# Altium footprint library CB3-ECB_PCB.PcbLib: 45 footprints (part 1 of 3)
Each footprint in its own frame and in the unit in brackets; x right, y up, seen from the top. Pads: shape width x height; smd on the part's side, far side on the other; paste and mask are expansions set on the pad; w line width, h text height; cw(c..) or ccw(c..) is an arc to the next point about the centre after c.
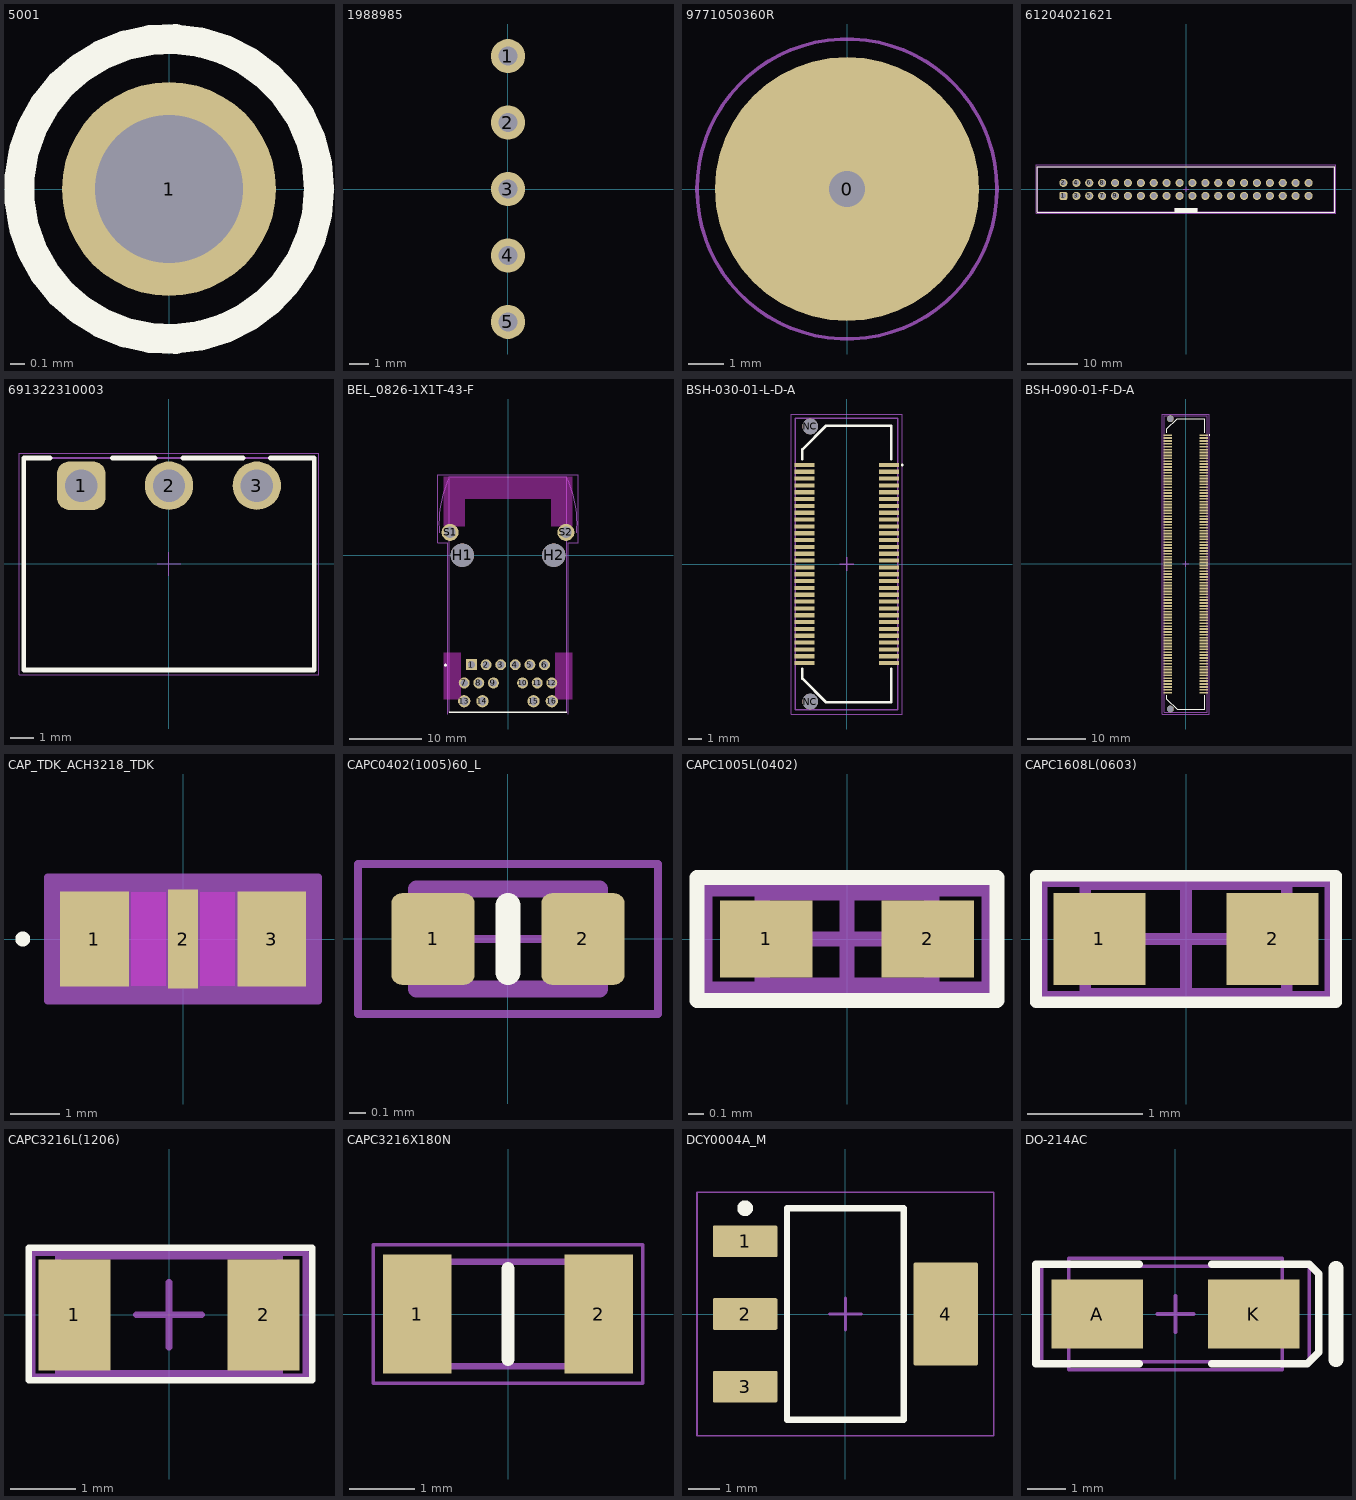
[diagram p0: the footprints below, top view; thin cyan lines are the x and y axes]

## 5001 [mm] "Black PC Test Point, Miniature Phosphor Bronze Silver Plating Through Hole Mounting Type"
pads (1):
  round 1.45 hole 1: 1(0,0)
Top Overlay:
  circle w0.203: c0,0 r1.016
Bottom Overlay:
  circle w0.203: c0,0 r1.016
3D body "5001.step": height 4.59, standoff -3.03, extent -1.27,-1.261 1.27,1.261

## 1988985 [mm] "Conn PC Terminal Block 5 POS 3.5mm Solder Thru-Hole 17.5A"
pads (5):
  round 1.8 hole 1: 1(0,7) 2(0,3.5) 3(0,0) 4(0,-3.5) 5(0,-7)
3D body "pxc_1988985_01_PTA-1-5-5-3-5_3D.stp": height 10.34, standoff -3.08, extent -8.833,-8.81 2.375,9.26

## 9771050360R [mm] "WA-SMSE SMT Steel Spacer, M3 Thread External"
pads (1):
  round 7.4 / inner round 7.4 / far side round 1.5 hole 1: 0(0,0)
Top Paste:
  region: 3.6,-0.3 1.1,-0.3 1.067,-0.448 0.933,-0.719 0.719,-0.933 0.448,-1.067 0.3,-1.1 0.3,-3.6 0.511,-3.583 0.926,-3.499 1.329,-3.368 1.713,-3.19 2.074,-2.968 2.407,-2.706 2.706,-2.407 2.968,-2.074 3.19,-1.713 3.368,-1.329 3.499,-0.926 3.583,-0.511
  region: -0.3,-3.6 -0.3,-1.1 -0.448,-1.067 -0.719,-0.933 -0.933,-0.719 -1.067,-0.448 -1.1,-0.3 -3.6,-0.3 -3.583,-0.511 -3.499,-0.926 -3.368,-1.329 -3.19,-1.713 -2.968,-2.074 -2.706,-2.407 -2.407,-2.706 -2.074,-2.968 -1.713,-3.19 -1.329,-3.368 -0.926,-3.499 -0.511,-3.583
  region: -3.6,0.3 -1.1,0.3 -1.067,0.448 -0.933,0.719 -0.719,0.933 -0.448,1.067 -0.3,1.1 -0.3,3.6 -0.511,3.583 -0.926,3.499 -1.329,3.368 -1.713,3.19 -2.074,2.968 -2.407,2.706 -2.706,2.407 -2.968,2.074 -3.19,1.713 -3.368,1.329 -3.499,0.926 -3.583,0.511
  region: 0.3,3.6 0.3,1.1 0.448,1.067 0.719,0.933 0.933,0.719 1.067,0.448 1.1,0.3 3.6,0.3 3.583,0.511 3.499,0.926 3.368,1.329 3.19,1.713 2.968,2.074 2.706,2.407 2.407,2.706 2.074,2.968 1.713,3.19 1.329,3.368 0.926,3.499 0.511,3.583
Mechanical 15:
  circle w0.1: c0,0 r4.2
3D body "9771050360R.STEP": height 11, standoff -0.8, extent -3,-3 3,3

## 61204021621 [mm] "40 pins, straight, gold plating"
height 9.1
pads (40):
  rrect50% 1.6x1.6 hole 1.1: 1(-24.13,-1.27)
  round 1.6 hole 1.1: 2(-24.13,1.27) 3(-21.59,-1.27) 4(-21.59,1.27) 5(-19.05,-1.27) 6(-19.05,1.27) 7(-16.51,-1.27) 8(-16.51,1.27) 9(-13.97,-1.27) 10(-13.97,1.27) 11(-11.43,-1.27) 12(-11.43,1.27) 13(-8.89,-1.27) 14(-8.89,1.27) 15(-6.35,-1.27) 16(-6.35,1.27) 17(-3.81,-1.27) 18(-3.81,1.27) 19(-1.27,-1.27) 20(-1.27,1.27) 21(1.27,-1.27) 22(1.27,1.27) 23(3.81,-1.27) 24(3.81,1.27) 25(6.35,-1.27) 26(6.35,1.27) 27(8.89,-1.27) 28(8.89,1.27) 29(11.43,-1.27) 30(11.43,1.27) 31(13.97,-1.27) 32(13.97,1.27) 33(16.51,-1.27) 34(16.51,1.27) 35(19.05,-1.27) 36(19.05,1.27) 37(21.59,-1.27) 38(21.59,1.27) 39(24.13,-1.27) 40(24.13,1.27)
Top Overlay:
  rectangle: -2.25,-4.5 2.25,-3.7
  lines w0.2: -29.33,-4.5 29.33,-4.5 29.33,4.5 -29.33,4.5 -29.33,-4.5
Top 3D Body:
  rectangle: -2.25,-4.425 2.25,-3.7
  lines w0.1: -29.23,-4.425 29.23,-4.425 29.23,4.425 -29.23,4.425 -29.23,-4.425
Top Courtyard:
  lines w0.05: -0.5,0 0.5,0 ; 0,-0.5 0,0.5 ; -29.53,-4.7 29.53,-4.7 29.53,4.85 -29.53,4.85 -29.53,-4.7
Top Designator:
  text ".Designator" at -7.498,-0.5 h1.5
Top Component Outline:
  rectangle: -2.25,-4.425 2.25,-3.7
  lines w0.1: -29.23,-4.425 -29.23,4.425 29.23,4.425 29.23,-4.425 -29.23,-4.425
3D body "61204021621.stp": height 9.13, standoff -2.98, extent -29.23,-4.425 29.23,4.75

## 691322310003 [mm] "Horizontal PCB Header, pitch 3.81mm, 03p"
height 7
pads (3):
  rrect50% 2.1x2.1 hole 1.4: 1(-3.81,3.4)
  round 2.1 hole 1.4: 2(0,3.4) 3(3.81,3.4)
Top Overlay:
  lines w0.2: -5.16,4.6 -6.31,4.6 -6.31,-4.6 6.31,-4.6 6.31,4.6 4.4,4.6 ; -2.46,4.6 -0.59,4.6 ; 0.59,4.6 3.22,4.6
Top 3D Body:
  lines w0.1: -6.31,-4.6 6.31,-4.6 6.31,4.6 -6.31,4.6 -6.31,-4.6
Top Courtyard:
  lines w0.05: -6.51,-4.8 -6.51,4.8 6.51,4.8 6.51,-4.8 -6.51,-4.8
Top Designator:
  text ".Designator" at -7.498,-0.5 h1.5
Top Component Outline:
  lines w0.1: -6.31,-4.6 -6.31,4.6 6.31,4.6 6.31,-4.6 -6.31,-4.6
Top Component Center:
  lines w0.05: -0.5,0 0.5,0 ; 0,-0.5 0,0.5
3D body "691322310003.stp": height 7.25, standoff -3.45, extent -6.31,-4.6 6.31,4.6

## BEL_0826-1X1T-43-F [mil] "Conn Modular Jack RCP 12 POS 2.03mm Solder RA Thru-Hole 16 Terminal 1 Port Tray"
height 611.02
pads (20):
  rect 60x60 / inner round 60 / far side rect 60x60 hole 40: 1(-200,-600)
  round 60 hole 40: 2(-120,-600) 3(-40,-600) 4(40,-600) 5(120,-600) 6(200,-600) 7(-240,-700) 8(-160,-700) 9(-80,-700) 10(80,-700) 11(160,-700) 12(240,-700)
  round 67.5 hole 45: 13(-240,-800) 14(-140,-800) 15(140,-800) 16(240,-800)
  round 128 hole 128 unplated: H1(-250,0) H2(250,0)
  round 93 hole 62: S1(-317.5,125) S2(317.5,125)
Top Overlay:
  circle w7.87: c-342.52,-602.36 r3.94
  lines w7.87: -321,-860 321,-860
Keep-Out Layer:
  region: 351,-790 258,-790 258,-535 351,-535
  region: -258,-790 -351,-790 -351,-535 -258,-535
  region: 351,158 236,158 236,310 -236,310 -236,158 -351,158 -351,430 351,430
Mechanical 13:
  circle w7.87: c-342.52,-602.36 r3.94
  lines w5: -375.8,122.69 cw(c220.64,174.87) -321.99,427.9 ; 321.99,427.9 cw(c-220.64,174.87) 375.8,122.69 ; -321,-860 321,-860 321,430 -321,430 -321,-860
Mechanical 15:
  lines w1.97: -331.1,-870.08 -331.1,68.5 -385.83,68.5 -385.83,439.76 385.83,439.76 385.83,68.5 331.1,68.5 331.1,-870.08
3D body "0826-1X1T-43-F.stp": height 589.9, standoff -143.97, extent -373.86,-859 373.98,455.89

## BSH-030-01-L-D-A [mm] "Conn Micro Socket SKT 60 POS 0.5mm Solder ST SMD Automotive Tray"
pads (62):
  rect 1.448x0.305 smd: 1(3.095,7.25) 2(3.095,6.75) 3(3.095,6.25) 4(3.095,5.75) 5(3.095,5.25) 6(3.095,4.75) 7(3.095,4.25) 8(3.095,3.75) 9(3.095,3.25) 10(3.095,2.75) 11(3.095,2.25) 12(3.095,1.75) 13(3.095,1.25) 14(3.095,0.75) 15(3.095,0.25) 16(3.095,-0.25) 17(3.095,-0.75) 18(3.095,-1.25) 19(3.095,-1.75) 20(3.095,-2.25) 21(3.095,-2.75) 22(3.095,-3.25) 23(3.095,-3.75) 24(3.095,-4.25) 25(3.095,-4.75) 26(3.095,-5.25) 27(3.095,-5.75) 28(3.095,-6.25) 29(3.095,-6.75) 30(3.095,-7.25) 31(-3.095,-7.25) 32(-3.095,-6.75) 33(-3.095,-6.25) 34(-3.095,-5.75) 35(-3.095,-5.25) 36(-3.095,-4.75) 37(-3.095,-4.25) 38(-3.095,-3.75) 39(-3.095,-3.25) 40(-3.095,-2.75) 41(-3.095,-2.25) 42(-3.095,-1.75) 43(-3.095,-1.25) 44(-3.095,-0.75) 45(-3.095,-0.25) 46(-3.095,0.25) 47(-3.095,0.75) 48(-3.095,1.25) 49(-3.095,1.75) 50(-3.095,2.25) 51(-3.095,2.75) 52(-3.095,3.25) 53(-3.095,3.75) 54(-3.095,4.25) 55(-3.095,4.75) 56(-3.095,5.25) 57(-3.095,5.75) 58(-3.095,6.25) 59(-3.095,6.75) 60(-3.095,7.25)
  round 1.15 hole 1.15 unplated paste-2539.97 mask+0: NC(-2.666,-10.065) NC(-2.666,10.065)
Top Overlay:
  circle w0.1: c4.065,7.25 r0.05
  lines w0.2: -3.25,-7.676 -3.25,-8.373 -1.5,-10.123 3.25,-10.123 3.25,-7.676 ; -3.25,7.676 -3.25,8.373 -1.5,10.123 3.25,10.123 3.25,7.676
Mechanical 13:
  lines w0.1: -3.75,-10.65 -3.75,10.65 3.75,10.65 3.75,-10.65 -3.75,-10.65
Mechanical 15:
  lines w0.05: -4.075,-10.975 4.05,-10.975 4.05,10.975 -4.075,10.975 -4.075,-10.975
  lines w0.1: -0.5,0 0.5,0 ; 0,-0.5 0,0.5
3D body "BSH-030-01-L-D-A.stp": height 3.25, standoff -0.75, extent -3.746,-10.636 3.746,10.636

## BSH-090-01-F-D-A [mm] "Conn Micro Socket SKT 180 POS 0.5mm Solder ST SMD Automotive Tray"
pads (182):
  rect 1.448x0.305 smd: 1(3.095,22.25) 2(3.095,21.75) 3(3.095,21.25) 4(3.095,20.75) 5(3.095,20.25) 6(3.095,19.75) 7(3.095,19.25) 8(3.095,18.75) 9(3.095,18.25) 10(3.095,17.75) 11(3.095,17.25) 12(3.095,16.75) 13(3.095,16.25) 14(3.095,15.75) 15(3.095,15.25) 16(3.095,14.75) 17(3.095,14.25) 18(3.095,13.75) 19(3.095,13.25) 20(3.095,12.75) 21(3.095,12.25) 22(3.095,11.75) 23(3.095,11.25) 24(3.095,10.75) 25(3.095,10.25) 26(3.095,9.75) 27(3.095,9.25) 28(3.095,8.75) 29(3.095,8.25) 30(3.095,7.75) 31(3.095,7.25) 32(3.095,6.75) 33(3.095,6.25) 34(3.095,5.75) 35(3.095,5.25) 36(3.095,4.75) 37(3.095,4.25) 38(3.095,3.75) 39(3.095,3.25) 40(3.095,2.75) 41(3.095,2.25) 42(3.095,1.75) 43(3.095,1.25) 44(3.095,0.75) 45(3.095,0.25) 46(3.095,-0.25) 47(3.095,-0.75) 48(3.095,-1.25) 49(3.095,-1.75) 50(3.095,-2.25) 51(3.095,-2.75) 52(3.095,-3.25) 53(3.095,-3.75) 54(3.095,-4.25) 55(3.095,-4.75) 56(3.095,-5.25) 57(3.095,-5.75) 58(3.095,-6.25) 59(3.095,-6.75) 60(3.095,-7.25) 61(3.095,-7.75) 62(3.095,-8.25) 63(3.095,-8.75) 64(3.095,-9.25) 65(3.095,-9.75) 66(3.095,-10.25) 67(3.095,-10.75) 68(3.095,-11.25) 69(3.095,-11.75) 70(3.095,-12.25) 71(3.095,-12.75) 72(3.095,-13.25) 73(3.095,-13.75) 74(3.095,-14.25) 75(3.095,-14.75) 76(3.095,-15.25) 77(3.095,-15.75) 78(3.095,-16.25) 79(3.095,-16.75) 80(3.095,-17.25) 81(3.095,-17.75) 82(3.095,-18.25) 83(3.095,-18.75) 84(3.095,-19.25) 85(3.095,-19.75) 86(3.095,-20.25) 87(3.095,-20.75) 88(3.095,-21.25) 89(3.095,-21.75) 90(3.095,-22.25) 91(-3.095,-22.25) 92(-3.095,-21.75) 93(-3.095,-21.25) 94(-3.095,-20.75) 95(-3.095,-20.25) 96(-3.095,-19.75) 97(-3.095,-19.25) 98(-3.095,-18.75) 99(-3.095,-18.25) 100(-3.095,-17.75) 101(-3.095,-17.25) 102(-3.095,-16.75) 103(-3.095,-16.25) 104(-3.095,-15.75) 105(-3.095,-15.25) 106(-3.095,-14.75) 107(-3.095,-14.25) 108(-3.095,-13.75) 109(-3.095,-13.25) 110(-3.095,-12.75) 111(-3.095,-12.25) 112(-3.095,-11.75) 113(-3.095,-11.25) 114(-3.095,-10.75) 115(-3.095,-10.25) 116(-3.095,-9.75) 117(-3.095,-9.25) 118(-3.095,-8.75) 119(-3.095,-8.25) 120(-3.095,-7.75) 121(-3.095,-7.25) 122(-3.095,-6.75) 123(-3.095,-6.25) 124(-3.095,-5.75) 125(-3.095,-5.25) 126(-3.095,-4.75) 127(-3.095,-4.25) 128(-3.095,-3.75) 129(-3.095,-3.25) 130(-3.095,-2.75) 131(-3.095,-2.25) 132(-3.095,-1.75) 133(-3.095,-1.25) 134(-3.095,-0.75) 135(-3.095,-0.25) 136(-3.095,0.25) 137(-3.095,0.75) 138(-3.095,1.25) 139(-3.095,1.75) 140(-3.095,2.25) 141(-3.095,2.75) 142(-3.095,3.25) 143(-3.095,3.75) 144(-3.095,4.25) 145(-3.095,4.75) 146(-3.095,5.25) 147(-3.095,5.75) 148(-3.095,6.25) 149(-3.095,6.75) 150(-3.095,7.25) 151(-3.095,7.75) 152(-3.095,8.25) 153(-3.095,8.75) 154(-3.095,9.25) 155(-3.095,9.75) 156(-3.095,10.25) 157(-3.095,10.75) 158(-3.095,11.25) 159(-3.095,11.75) 160(-3.095,12.25) 161(-3.095,12.75) 162(-3.095,13.25) 163(-3.095,13.75) 164(-3.095,14.25) 165(-3.095,14.75) 166(-3.095,15.25) 167(-3.095,15.75) 168(-3.095,16.25) 169(-3.095,16.75) 170(-3.095,17.25) 171(-3.095,17.75) 172(-3.095,18.25) 173(-3.095,18.75) 174(-3.095,19.25) 175(-3.095,19.75) 176(-3.095,20.25) 177(-3.095,20.75) 178(-3.095,21.25) 179(-3.095,21.75) 180(-3.095,22.25)
  round 1.15 hole 1.15 unplated paste-2539.97 mask+0: H1(-2.666,25.067) H2(-2.666,-25.067)
Top Overlay:
  circle w0.1: c4.065,22.3 r0.05
  lines w0.2: -3.25,-22.676 -3.25,-23.373 -1.5,-25.123 3.25,-25.123 3.25,-22.676 ; -3.25,22.676 -3.25,23.373 -1.5,25.123 3.25,25.123 3.25,22.676
Mechanical 13:
  lines w0.1: -3.747,-25.64 3.746,-25.64 3.746,25.64 -3.747,25.64 -3.747,-25.64
Mechanical 15:
  lines w0.05: -4.039,-25.933 -4.039,25.908 4.039,25.908 4.039,-25.933 -4.039,-25.933
  lines w0.1: -0.5,0 0.5,0 ; 0,-0.5 0,0.5
3D body "BSH-090-01-F-D-A.stp": height 3.25, standoff -0.75, extent -3.746,-25.64 3.746,25.64

## CAP_TDK_ACH3218_TDK [mil]
pads (3):
  rect 55x76 smd paste+0 mask+0: 1(-71,0) 3(71,0)
  rect 24x79 smd paste+0 mask+0: 2(0,0)
Top Layer keep-out:
  region: 41.5,-37.5 41.5,37.5 14,37.5 14,-37.5
  region: -14,-37.5 -14,37.5 -41.5,37.5 -41.5,-37.5
Top Overlay:
  circle w6: c-128.5,0 r3
Mechanical 13:
  circle w0: c-66,0 r3
  lines w1: -69,-39.5 -69,39.5 69,39.5 69,-39.5 -69,-39.5
Mechanical 15:
  region: 69,-39.5 -69,-39.5 -69,39.5 69,39.5
  region: -108.5,-49.5 -108.5,49.5 -33.5,49.5 -22,49.5 22,49.5 33.5,49.5 108.5,49.5 108.5,-49.5 33.5,-49.5 22,-49.5 -22,-49.5 -33.5,-49.5
  lines w6: -33.5,-48 -33.5,-49.5 ; -33.5,48 -33.5,49.5 ; 33.5,-48 33.5,-49.5 ; 33.5,48 33.5,49.5 ; -33.5,-49.5 -22,-49.5 22,-49.5 33.5,-49.5 ; -33.5,-49.5 -108.5,-49.5 -108.5,49.5 -33.5,49.5 ; -33.5,49.5 -22,49.5 22,49.5 33.5,49.5 ; 33.5,-49.5 108.5,-49.5 108.5,49.5 33.5,49.5

## CAPC0402(1005)60_L [mm] "Chip Capacitor, Body 1.0x0.5mm, Height 0.6mm, IPC High Density"
height 0.6
pads (2):
  rrect25% 0.5x0.55 smd: 1(-0.45,0) 2(0.45,0)
Top Overlay:
  lines w0.15: 0,-0.2 0,0.2
Top Assembly:
  lines w0.1: -0.55,-0.3 0.55,-0.3 0.55,0.3 -0.55,0.3 -0.55,-0.3
Top Courtyard:
  lines w0.05: -0.275,0 0.275,0 ; 0,-0.275 0,0.275 ; -0.9,-0.45 -0.9,0.45 0.9,0.45 0.9,-0.45 -0.9,-0.45
Top Designator:
  text ".Designator" at -1.27,-0.127 h0.6
3D body "CAPC1005X60N EIA 0402.STEP": height 0.6, standoff 0, extent -0.5,-0.25 0.5,0.25

## CAPC1005L(0402) [mm] "General 0402 Capacitor Footprint, Body 1.0x0.5mm, IPC High Density"
pads (2):
  rect 0.6x0.5 smd: 1(-0.525,0) 2(0.525,0)
Top Overlay:
  lines w0.1: -0.975,-0.4 0.975,-0.4 0.975,0.4 -0.975,0.4 -0.975,-0.4
Mechanical 13:
  lines w0.1: -0.55,-0.3 0.55,-0.3 0.55,0.3 -0.55,0.3 -0.55,-0.3
Mechanical 15:
  lines w0.1: -0.3,0 0.3,0 ; 0,-0.3 0,0.3 ; -0.925,-0.325 0.925,-0.325 0.925,0.325 -0.925,0.325 -0.925,-0.325
3D body: height 0.6, standoff 0, extent -0.55,-0.3 0.55,0.3

## CAPC1608L(0603) [mm] "General 0603 Capacitor Footprint, Body 1.6x0.8mm, IPC High Density"
pads (2):
  rect 0.8x0.8 smd: 1(-0.75,0) 2(0.75,0)
Top Overlay:
  lines w0.1: -1.3,-0.55 1.3,-0.55 1.3,0.55 -1.3,0.55 -1.3,-0.55
Mechanical 13:
  lines w0.1: -0.875,-0.475 -0.875,0.475 0.875,0.475 0.875,-0.475 -0.875,-0.475
Mechanical 15:
  lines w0.1: -0.475,0 0.475,0 ; 0,-0.475 0,0.475 ; -1.25,-0.5 -1.25,0.5 1.25,0.5 1.25,-0.5 -1.25,-0.5
3D body: height 0.85, standoff 0, extent -0.875,-0.475 0.875,0.475

## CAPC3216L(1206) [mm] "General 1206 Capacitor Footprint, Body 3.2x1.6mm, IPC High Density"
pads (2):
  rect 1.1x1.7 smd: 1(-1.45,0) 2(1.45,0)
Top Overlay:
  lines w0.1: -2.15,-1 2.2,-1 2.2,1.025 -2.15,1.025 -2.15,-1
Mechanical 13:
  lines w0.1: -1.7,-0.9 -1.7,0.9 1.7,0.9 1.7,-0.9 -1.7,-0.9
Mechanical 15:
  lines w0.1: -0.5,0 0.5,0 ; 0,-0.5 0,0.5 ; -2.1,-0.95 -2.1,0.95 2.1,0.95 2.1,-0.95 -2.1,-0.95
3D body: height 1.35, standoff 0, extent -1.7,-0.9 1.7,0.9

## CAPC3216X180N [mm]
pads (2):
  rect 1.05x1.82 smd: 1(-1.39,0) 2(1.39,0)
Top Overlay:
  lines w0.2: 0,-0.7 0,0.7
Mechanical 13:
  lines w0.1: -1.6,-0.8 1.6,-0.8 1.6,0.8 -1.6,0.8 -1.6,-0.8
Mechanical 15:
  lines w0.05: -2.065,-1.06 2.065,-1.06 2.065,1.06 -2.065,1.06 -2.065,-1.06
3D body "CL31B106KAHNNNE.stp": height 1.8, standoff 0, extent -1.6,-0.8 1.6,0.8

## DCY0004A_M [mm] "SOT223, 4-Leads, Body 6.7x3.7mm, Pitch 2.3mm, IPC Low Density"
height 1.8
pads (4):
  rrect10% 2.05x1 smd: 1(-3.175,2.3) 2(-3.175,0) 3(-3.175,-2.3)
  rrect5% 2.05x3.25 smd: 4(3.175,0)
Top Overlay:
  circle w0.25: c-3.175,3.35 r0.125
  lines w0.2: -1.85,-3.35 1.85,-3.35 1.85,3.35 -1.85,3.35 -1.85,-3.35
Mechanical 1:
  text ".Designator" at -1.651,-0.381 h0.8
Mechanical 13:
  lines w0.1: -1.85,-3.35 1.85,-3.35 1.85,3.35 -1.85,3.35 -1.85,-3.35
Mechanical 15:
  lines w0.05: -4.7,-3.85 4.7,-3.85 4.7,3.85 -4.7,3.85 -4.7,-3.85
  lines w0.1: -0.5,0 0.5,0 ; 0,-0.5 0,0.5
3D body "SOT-223.stp": height 1.62, standoff -0.03, extent -3.5,-3.25 3.5,3.25

## DO-214AC [mm] "General DO-214AC/SMA Diode Footprint; 2 C-Bend Leads; Body 5.0 x 2.7 mm, inc. leads (LxW)"
pads (2):
  rect 2.4x1.8 smd: A(-2.05,0) K(2.05,0)
Top Overlay:
  lines w0.2: -0.95,-1.3 -3.65,-1.3 -3.65,1.3 -0.95,1.3 ; 0.95,-1.3 3.45,-1.3 3.75,-1 3.75,1.05 3.5,1.3 0.95,1.3
  lines w0.381: 4.2,-1.2 4.2,1.2
Mechanical 13:
  lines w0.1: -2.795,-1.46 -2.795,1.46 2.795,1.46 2.795,-1.46 -2.795,-1.46
Mechanical 15:
  lines w0.1: -0.475,0 0.475,0 ; 0,-0.475 0,0.475 ; -3.5,-1.25 -3.5,1.25 3.5,1.25 3.5,-1.25 -3.5,-1.25
3D body "SMA (DO-214AC).STEP": height 2.3, standoff 0, extent -2.6,-1.45 2.6,1.45